# EAGLE library part M74HC4078B1R (library ST_Microelctronics_By_element14_Batch_1)
8-INPUT NOR/OR GATE
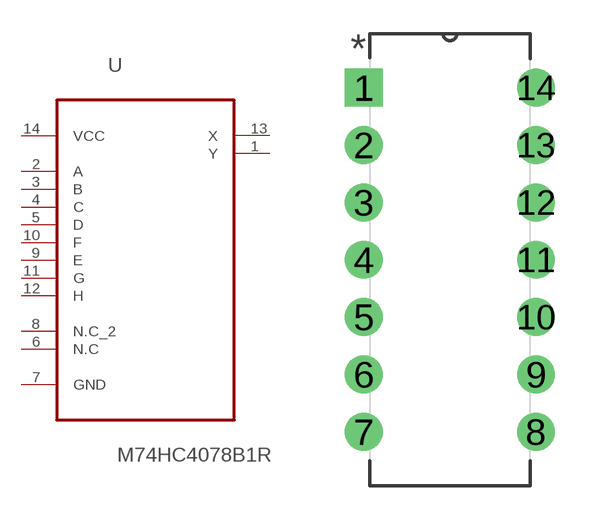
[diagram p240: symbol with the pads of DIP254P762X510-14; footprint DIP254P762X510-14]

Designator prefix U

## M74HC4078B1R (MPN: M74HC4078B1R; OC_FARNELL: 9755527; OC_NEWARK: 89K0915; PACKAGE: PDIP-14; SUPPLIER: STMICROELECTRONICS)  [DIP254P762X510-14]
1  Y  out
2  A  in
3  B  in
4  C  in
5  D  in
6  N.C  nc
7  GND  pas
8  N.C_2  nc
9  E  in
10  F  in
11  G  in
12  H  in
13  X  out
14  VCC  pwr

## Footprint DIP254P762X510-14 (pad centres in mm)
drill 1.118 square: 1 -7.62,15.24
drill 1.118: 2 -7.62,12.7; 3 -7.62,10.16; 4 -7.62,7.62; 5 -7.62,5.08; 6 -7.62,2.54; 7 -7.62,0; 8 0,0; 9 0,2.54; 10 0,5.08; 11 0,7.62; 12 0,10.16; 13 0,12.7; 14 0,15.24